# Altium schematic symbol library IPI040N06N3 G.SchLib: 1 symbol
Pins are listed as number, name and electrical type; pins without a type are passive.

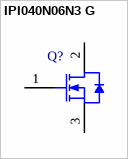
[diagram p0: symbol IPI040N06N3 G]

## IPI040N06N3 G
designator Q?
N-Channel OptiMOS 3 Power-Transistor, 60 V VDS, 90 A ID, -55 to 175 degC, PG-TO262-3-1, Tube, Green; Manufacturer: Infineon; PartNumber: IPI040N06N3 G; Green: TRUE; ID (max): 90 A; IDpuls (max): 360 A; Polarity: N; Ptot (max): 150 W; QG: 98 nC; RDS (on) (max): 4 mOhm; Rth: 1 K/W; RthJA (max): 62 K/W; RthJC (max): 0.8 K/W; VDS (max): 60 V; VGS(th) (max): 4 V; VGS(th) (min): 2 V; DatasheetVersion: Rev. 1.03; PackageVersion: Rev. 03, 05/2006; PackageReference: PG-TO262-3-1; PackageDescription: 3-Pin Plastic (Green) Transistor Single Outline Package, 10.03 x 8.98 mm Body, 2.54 mm Pitch; Supplier 1: Digi-Key; Supplier Part Number 1: IPI040N06N3 G-ND; Supplier 2: Mouser; Supplier Part Number 2: 726-IPI040N06N3G; Halogen-free: TRUE; Packing: Tube; Mounting Technology: Through Hole; ComponentLink1Description: Manufacturer URL; ComponentLink1URL: http://www.infineon.com/; ComponentLink2Description: Datasheet; ComponentLink2URL: http://www.infineon.com/dgdl/IPP040N06N3_Rev13.pdf?folderId=db3a304313b8b5a60113cee8763b02d7&fileId=db3a30432313ff5e01239f31f7be717f; ComponentLink3Description: Package Specification; ComponentLink3URL: http://www.infineon.com/dgdl/DS_IPX65R420CFD_2_4.pdf?folderId=db3a3043156fd5730115c736bcc70ff2&fileId=db3a30432f91014f012f9c293f1a7399
footprint INF-PG-TO262-3-1_A (FM, 3-Leads, Body 10.03x4.436mm, Pitch 2.54mm)
pins: 1 GATE, 2 DRAIN, 3 SOURCE